# Altium integrated library ON Semi Logic Buffer Line Driver.IntLib: 294 symbols (part 5 of 7)
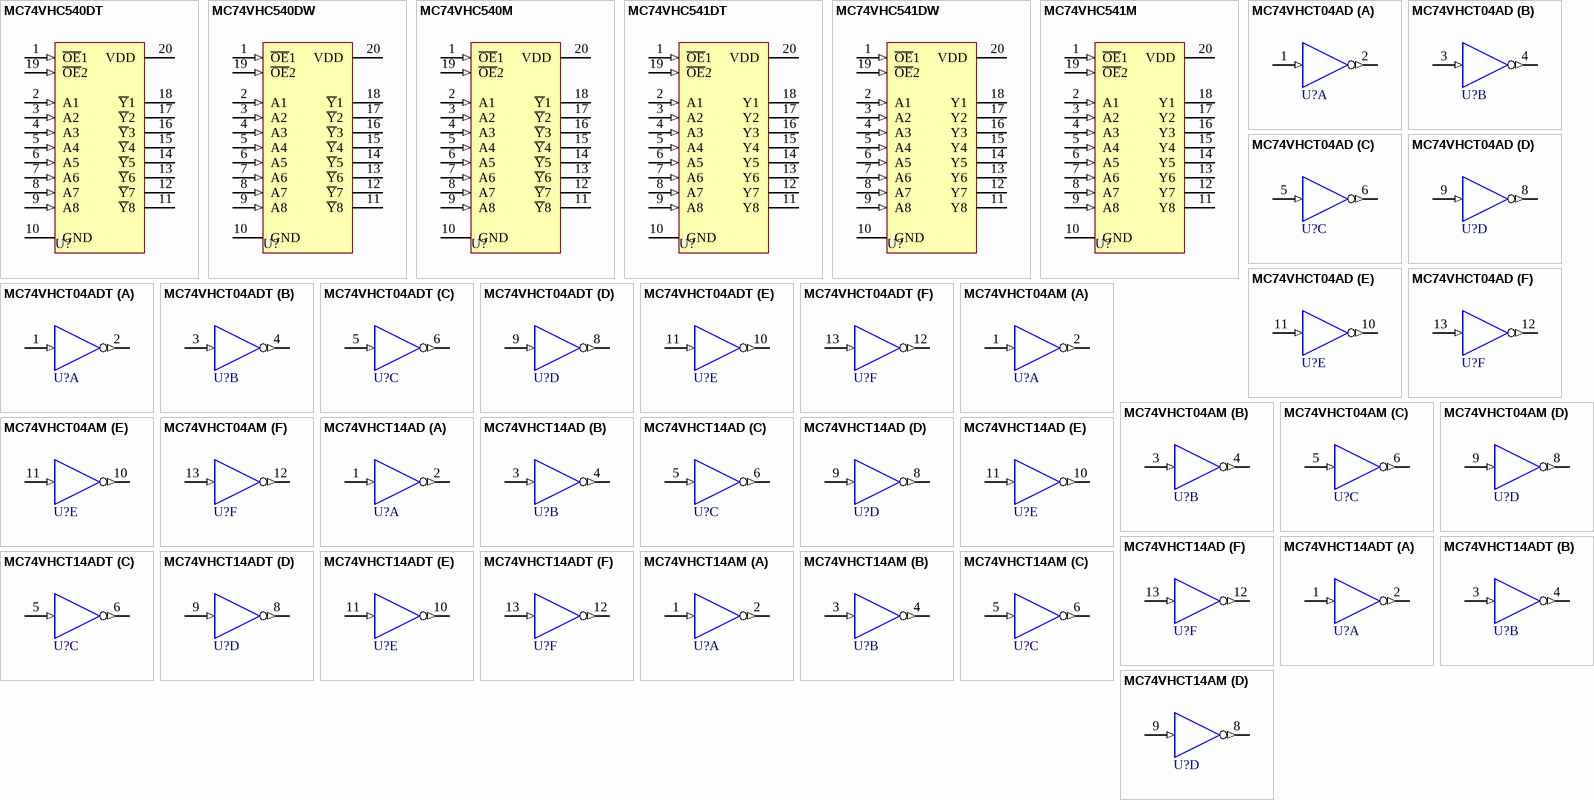
[diagram p26: symbols MC74VHC540DT to MC74VHCT14AM]

## MC74VHC540M
designator U?
Octal Inverting Bus Buffer; Published: 15-Apr-2002; LatestRevisionDate: 13-Apr-2006; LatestRevisionNote: IPC-7351 Footprint Added.; DatasheetVersion: 1997; PackageVersion: 1997; PackageReference: 967-01; Publisher: Altium Limited; PackageDescription: 20-Pin Small Outline Package 1.27 mm Pitch; ComponentLink1Description: Manufacturer Link; ComponentLink1URL: http://www.onsemi.com/; ComponentLink2Description: Datasheet; ComponentLink2URL: http://www.onsemi.com/pub/Collateral/MC74VHC540-D.PDF
footprint 967-01_N (SOP, 20-Leads, Body 12.6x5.3mm, Pitch 1.27mm, IPC Medium Density)
footprint 967-01_L (SOP, 20-Leads, Body 12.6x5.3mm, Pitch 1.27mm, IPC High Density)
footprint 967-01_M (SOP, 20-Leads, Body 12.6x5.3mm, Pitch 1.27mm, IPC Low Density)
pins: 1 ~{OE}1 (in), 2 A1 (in), 3 A2 (in), 4 A3 (in), 5 A4 (in), 6 A5 (in), 7 A6 (in), 8 A7 (in), 9 A8 (in), 10 GND (power), 11 ~{Y}8 (hiz), 12 ~{Y}7 (hiz), 13 ~{Y}6 (hiz), 14 ~{Y}5 (hiz), 15 ~{Y}4 (hiz), 16 ~{Y}3 (hiz), 17 ~{Y}2 (hiz), 18 ~{Y}1 (hiz), 19 ~{OE}2 (in), 20 VDD (power)

## MC74VHC541DT
designator U?
Octal Bus Buffer; Published: 15-Apr-2002; LatestRevisionDate: 12-Dec-2006; LatestRevisionNote: IPC-7351 Footprint Added.; DatasheetVersion: 1998; PackageVersion: Mar-2000; PackageReference: 948E-02; Publisher: Altium Limited; PackageDescription: 20-Pin Thin Small Outline Package 0.65 mm Pitch; ComponentLink1Description: Manufacturer Link; ComponentLink1URL: http://www.onsemi.com/; ComponentLink2Description: Datasheet; ComponentLink2URL: http://www.onsemi.com/pub/Collateral/MC74VHC541-D.PDF
footprint 948E-02_N (TSOP, 20-Leads, Body 6.5x4.4mm, Pitch 0.65mm, IPC Medium Density)
footprint 948E-02_L (TSOP, 20-Leads, Body 6.5x4.4mm, Pitch 0.65mm, IPC High Density)
footprint 948E-02_M (TSOP, 20-Leads, Body 6.5x4.4mm, Pitch 0.65mm, IPC Low Density)
pins: 1 ~{OE}1 (in), 2 A1 (in), 3 A2 (in), 4 A3 (in), 5 A4 (in), 6 A5 (in), 7 A6 (in), 8 A7 (in), 9 A8 (in), 10 GND (power), 11 Y8 (hiz), 12 Y7 (hiz), 13 Y6 (hiz), 14 Y5 (hiz), 15 Y4 (hiz), 16 Y3 (hiz), 17 Y2 (hiz), 18 Y1 (hiz), 19 ~{OE}2 (in), 20 VDD (power)

## MC74VHC541DW
designator U?
Octal Bus Buffer; Published: 15-Apr-2002; LatestRevisionDate: 13-Apr-2006; LatestRevisionNote: IPC-7351 Footprint Added.; DatasheetVersion: 1998; PackageReference: 751D-04; Publisher: Altium Limited; PackageDescription: 20-Pin Small Outline Integrated Circuit 1.27 mm Pitch; ComponentLink1Description: Manufacturer Link; ComponentLink1URL: http://www.onsemi.com/; ComponentLink2Description: Datasheet; ComponentLink2URL: http://www.onsemi.com/pub/Collateral/MC74VHC541-D.PDF
footprint 751D-04_N (SOIC, 20-Leads, Body 12.8x7.5mm, Pitch 1.27mm, IPC Medium Density)
footprint 751D-04_L (SOIC, 20-Leads, Body 12.8x7.5mm, Pitch 1.27mm, IPC High Density)
footprint 751D-04_M (SOIC, 20-Leads, Body 12.8x7.5mm, Pitch 1.27mm, IPC Low Density)
pins: 1 ~{OE}1 (in), 2 A1 (in), 3 A2 (in), 4 A3 (in), 5 A4 (in), 6 A5 (in), 7 A6 (in), 8 A7 (in), 9 A8 (in), 10 GND (power), 11 Y8 (hiz), 12 Y7 (hiz), 13 Y6 (hiz), 14 Y5 (hiz), 15 Y4 (hiz), 16 Y3 (hiz), 17 Y2 (hiz), 18 Y1 (hiz), 19 ~{OE}2 (in), 20 VDD (power)

## MC74VHC541M
designator U?
Octal Bus Buffer; Published: 15-Apr-2002; LatestRevisionDate: 13-Apr-2006; LatestRevisionNote: IPC-7351 Footprint Added.; DatasheetVersion: 1998; PackageVersion: 1997; PackageReference: 967-01; Publisher: Altium Limited; PackageDescription: 20-Pin Small Outline Package 1.27 mm Pitch; ComponentLink1Description: Manufacturer Link; ComponentLink1URL: http://www.onsemi.com/; ComponentLink2Description: Datasheet; ComponentLink2URL: http://www.onsemi.com/pub/Collateral/MC74VHC541-D.PDF
footprint 967-01_N (SOP, 20-Leads, Body 12.6x5.3mm, Pitch 1.27mm, IPC Medium Density)
footprint 967-01_L (SOP, 20-Leads, Body 12.6x5.3mm, Pitch 1.27mm, IPC High Density)
footprint 967-01_M (SOP, 20-Leads, Body 12.6x5.3mm, Pitch 1.27mm, IPC Low Density)
pins: 1 ~{OE}1 (in), 2 A1 (in), 3 A2 (in), 4 A3 (in), 5 A4 (in), 6 A5 (in), 7 A6 (in), 8 A7 (in), 9 A8 (in), 10 GND (power), 11 Y8 (hiz), 12 Y7 (hiz), 13 Y6 (hiz), 14 Y5 (hiz), 15 Y4 (hiz), 16 Y3 (hiz), 17 Y2 (hiz), 18 Y1 (hiz), 19 ~{OE}2 (in), 20 VDD (power)

## MC74VHCT04AD
designator U?
Hex Inverter; Published: 15-Apr-2002; LatestRevisionDate: 13-Apr-2006; LatestRevisionNote: IPC-7351 Footprint Added.; DatasheetVersion: 1997; PackageReference: 751A-03; Publisher: Altium Limited; PackageDescription: 14-Pin Small Outline Integrated Circuit 1.27 mm Pitch; Code_JEDEC: MS-012-AB; Code_IPC: SOIC127P600-14; ComponentLink1Description: Manufacturer Link; ComponentLink1URL: http://www.onsemi.com/; ComponentLink2Description: Datasheet; ComponentLink2URL: http://www.onsemi.com/pub/Collateral/MC74VHCT04A-D.PDF
footprint 751A-03_N (SOIC, 14-Leads, Body 8.7x3.9mm, Pitch 1.27mm, IPC Medium Density)
footprint 751A-03_L (SOIC, 14-Leads, Body 8.7x3.9mm, Pitch 1.27mm, IPC High Density)
footprint 751A-03_M (SOIC, 14-Leads, Body 8.7x3.9mm, Pitch 1.27mm, IPC Low Density)
pins on every part: 7 GND (power) hidden to GND, 14 VDD (power) hidden to VDD
part A pins: 1 IN (in), 2 ~{OUT} (out)
part B pins: 3 IN (in), 4 ~{OUT} (out)
part C pins: 5 IN (in), 6 ~{OUT} (out)
part D pins: 8 ~{OUT} (out), 9 IN (in)
part E pins: 10 ~{OUT} (out), 11 IN (in)
part F pins: 12 ~{OUT} (out), 13 IN (in)

## MC74VHCT04ADT
designator U?
Hex Inverter; Published: 15-Apr-2002; LatestRevisionDate: 12-Dec-2006; LatestRevisionNote: IPC-7351 Footprint Added.; DatasheetVersion: 1997; PackageVersion: 1998; PackageReference: 948G-01; Publisher: Altium Limited; PackageDescription: 14-Pin Thin Small Outline Package 0.65 mm Pitch; ComponentLink1Description: Manufacturer Link; ComponentLink1URL: http://www.onsemi.com/; ComponentLink2Description: Datasheet; ComponentLink2URL: http://www.onsemi.com/pub/Collateral/MC74VHCT04A-D.PDF
footprint 948G-01_N (TSOP, 14-Leads, Body 5x4.4mm, Pitch 0.65mm, IPC Medium Density)
footprint 948G-01_L (TSOP, 14-Leads, Body 5x4.4mm, Pitch 0.65mm, IPC High Density)
footprint 948G-01_M (TSOP, 14-Leads, Body 5x4.4mm, Pitch 0.65mm, IPC Low Density)
pins on every part: 7 GND (power) hidden to GND, 14 VDD (power) hidden to VDD
part A pins: 1 IN (in), 2 ~{OUT} (out)
part B pins: 3 IN (in), 4 ~{OUT} (out)
part C pins: 5 IN (in), 6 ~{OUT} (out)
part D pins: 8 ~{OUT} (out), 9 IN (in)
part E pins: 10 ~{OUT} (out), 11 IN (in)
part F pins: 12 ~{OUT} (out), 13 IN (in)

## MC74VHCT04AM
designator U?
Hex Inverter; Published: 15-Apr-2002; LatestRevisionDate: 13-Apr-2006; LatestRevisionNote: IPC-7351 Footprint Added.; DatasheetVersion: 1997; PackageVersion: 1996; PackageReference: 965-01; Publisher: Altium Limited; PackageDescription: 14-Pin Small Outline Package 1.27 mm Pitch; ComponentLink1Description: Manufacturer Link; ComponentLink1URL: http://www.onsemi.com/; ComponentLink2Description: Datasheet; ComponentLink2URL: http://www.onsemi.com/pub/Collateral/MC74VHCT04A-D.PDF
footprint 965-01_N (SOP, 14-Leads, Body 10.2x5.3mm, Pitch 1.27mm, IPC Medium Density)
footprint 965-01_L (SOP, 14-Leads, Body 10.2x5.3mm, Pitch 1.27mm, IPC High Density)
footprint 965-01_M (SOP, 14-Leads, Body 10.2x5.3mm, Pitch 1.27mm, IPC Low Density)
pins on every part: 7 GND (power) hidden to GND, 14 VDD (power) hidden to VDD
part A pins: 1 IN (in), 2 ~{OUT} (out)
part B pins: 3 IN (in), 4 ~{OUT} (out)
part C pins: 5 IN (in), 6 ~{OUT} (out)
part D pins: 8 ~{OUT} (out), 9 IN (in)
part E pins: 10 ~{OUT} (out), 11 IN (in)
part F pins: 12 ~{OUT} (out), 13 IN (in)

## MC74VHCT14AD
designator U?
Hex Schmitt-Trigger Inverter; Published: 15-Apr-2002; LatestRevisionDate: 13-Apr-2006; LatestRevisionNote: IPC-7351 Footprint Added.; DatasheetVersion: 1999; PackageReference: 751A-03; Publisher: Altium Limited; PackageDescription: 14-Pin Small Outline Integrated Circuit 1.27 mm Pitch; Code_JEDEC: MS-012-AB; Code_IPC: SOIC127P600-14; ComponentLink1Description: Manufacturer Link; ComponentLink1URL: http://www.onsemi.com/; ComponentLink2Description: Datasheet; ComponentLink2URL: http://www.onsemi.com/pub/Collateral/MC74VHCT14A-D.PDF
footprint 751A-03_N (SOIC, 14-Leads, Body 8.7x3.9mm, Pitch 1.27mm, IPC Medium Density)
footprint 751A-03_L (SOIC, 14-Leads, Body 8.7x3.9mm, Pitch 1.27mm, IPC High Density)
footprint 751A-03_M (SOIC, 14-Leads, Body 8.7x3.9mm, Pitch 1.27mm, IPC Low Density)
pins on every part: 7 GND (power) hidden to GND, 14 VDD (power) hidden to VDD
part A pins: 1 IN (in), 2 ~{OUT} (out)
part B pins: 3 IN (in), 4 ~{OUT} (out)
part C pins: 5 IN (in), 6 ~{OUT} (out)
part D pins: 8 ~{OUT} (out), 9 IN (in)
part E pins: 10 ~{OUT} (out), 11 IN (in)
part F pins: 12 ~{OUT} (out), 13 IN (in)

## MC74VHCT14ADT
designator U?
Hex Schmitt-Trigger Inverter; Published: 15-Apr-2002; LatestRevisionDate: 12-Dec-2006; LatestRevisionNote: IPC-7351 Footprint Added.; DatasheetVersion: 1999; PackageVersion: 1998; PackageReference: 948G-01; Publisher: Altium Limited; PackageDescription: 14-Pin Thin Small Outline Package 0.65 mm Pitch; ComponentLink1Description: Manufacturer Link; ComponentLink1URL: http://www.onsemi.com/; ComponentLink2Description: Datasheet; ComponentLink2URL: http://www.onsemi.com/pub/Collateral/MC74VHCT14A-D.PDF
footprint 948G-01_N (TSOP, 14-Leads, Body 5x4.4mm, Pitch 0.65mm, IPC Medium Density)
footprint 948G-01_L (TSOP, 14-Leads, Body 5x4.4mm, Pitch 0.65mm, IPC High Density)
footprint 948G-01_M (TSOP, 14-Leads, Body 5x4.4mm, Pitch 0.65mm, IPC Low Density)
pins on every part: 7 GND (power) hidden to GND, 14 VDD (power) hidden to VDD
part A pins: 1 IN (in), 2 ~{OUT} (out)
part B pins: 3 IN (in), 4 ~{OUT} (out)
part C pins: 5 IN (in), 6 ~{OUT} (out)
part D pins: 8 ~{OUT} (out), 9 IN (in)
part E pins: 10 ~{OUT} (out), 11 IN (in)
part F pins: 12 ~{OUT} (out), 13 IN (in)

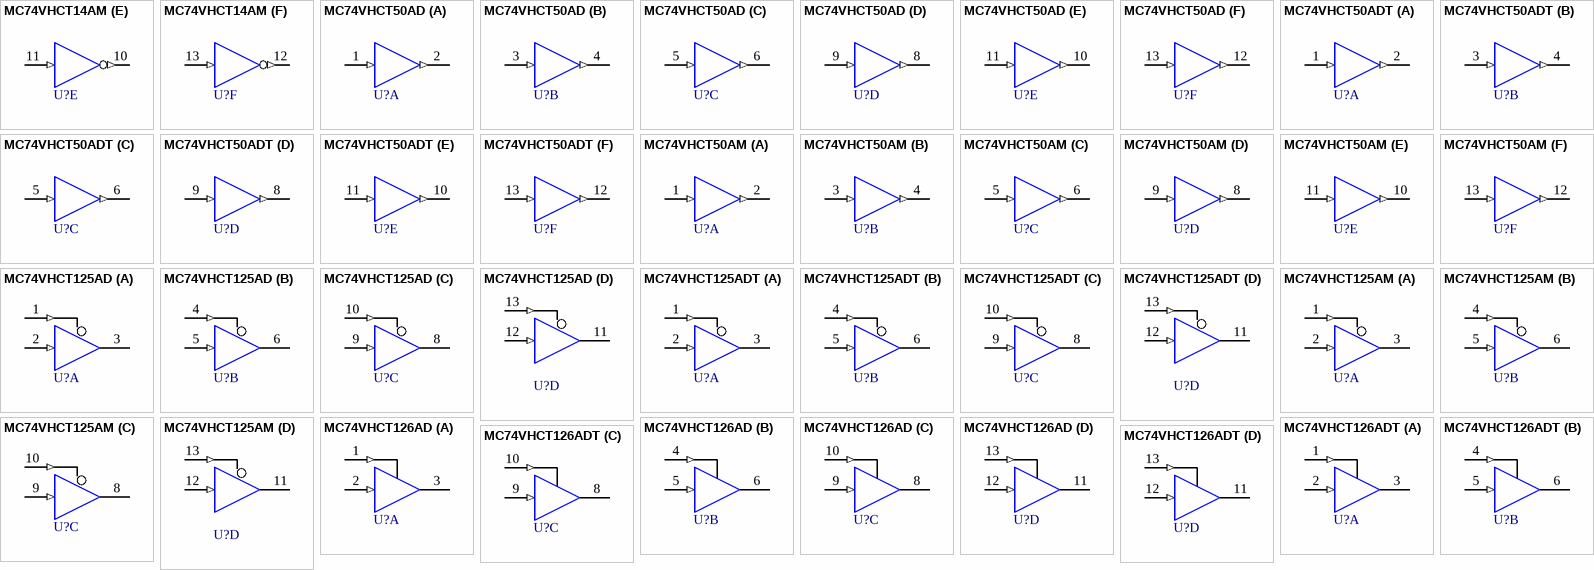
[diagram p15: symbols MC74VHCT14AM to MC74VHCT126ADT]

## MC74VHCT14AM
designator U?
Hex Schmitt-Trigger Inverter; Published: 15-Apr-2002; LatestRevisionDate: 13-Apr-2006; LatestRevisionNote: IPC-7351 Footprint Added.; DatasheetVersion: 1999; PackageVersion: 1996; PackageReference: 965-01; Publisher: Altium Limited; PackageDescription: 14-Pin Small Outline Package 1.27 mm Pitch; ComponentLink1Description: Manufacturer Link; ComponentLink1URL: http://www.onsemi.com/; ComponentLink2Description: Datasheet; ComponentLink2URL: http://www.onsemi.com/pub/Collateral/MC74VHCT14A-D.PDF
footprint 965-01_N (SOP, 14-Leads, Body 10.2x5.3mm, Pitch 1.27mm, IPC Medium Density)
footprint 965-01_L (SOP, 14-Leads, Body 10.2x5.3mm, Pitch 1.27mm, IPC High Density)
footprint 965-01_M (SOP, 14-Leads, Body 10.2x5.3mm, Pitch 1.27mm, IPC Low Density)
pins on every part: 7 GND (power) hidden to GND, 14 VDD (power) hidden to VDD
part A pins: 1 IN (in), 2 ~{OUT} (out)
part B pins: 3 IN (in), 4 ~{OUT} (out)
part C pins: 5 IN (in), 6 ~{OUT} (out)
part D pins: 8 ~{OUT} (out), 9 IN (in)
part E pins: 10 ~{OUT} (out), 11 IN (in)
part F pins: 12 ~{OUT} (out), 13 IN (in)

## MC74VHCT50AD
designator U?
Non-Inverting Buffer / CMOS Logic Level Shifter with LSTTL-Compatible Inputs; Published: 15-Apr-2002; LatestRevisionDate: 13-Apr-2006; LatestRevisionNote: IPC-7351 Footprint Added.; DatasheetVersion: Oct-1999; PackageReference: 751A-03; Publisher: Altium Limited; PackageDescription: 14-Pin Small Outline Integrated Circuit 1.27 mm Pitch; Code_JEDEC: MS-012-AB; Code_IPC: SOIC127P600-14; ComponentLink1Description: Manufacturer Link; ComponentLink1URL: http://www.onsemi.com/; ComponentLink2Description: Datasheet; ComponentLink2URL: http://www.onsemi.com/pub/Collateral/MC74VHCT50A-D.PDF
footprint 751A-03_N (SOIC, 14-Leads, Body 8.7x3.9mm, Pitch 1.27mm, IPC Medium Density)
footprint 751A-03_L (SOIC, 14-Leads, Body 8.7x3.9mm, Pitch 1.27mm, IPC High Density)
footprint 751A-03_M (SOIC, 14-Leads, Body 8.7x3.9mm, Pitch 1.27mm, IPC Low Density)
pins on every part: 7 GND (power) hidden to GND, 14 VDD (power) hidden to VDD
part A pins: 1 A (in), 2 Y (out)
part B pins: 3 A (in), 4 Y (out)
part C pins: 5 A (in), 6 Y (out)
part D pins: 8 Y (out), 9 A (in)
part E pins: 10 Y (out), 11 A (in)
part F pins: 12 Y (out), 13 A (in)

## MC74VHCT50ADT
designator U?
Non-Inverting Buffer / CMOS Logic Level Shifter with LSTTL-Compatible Inputs; Published: 15-Apr-2002; LatestRevisionDate: 12-Dec-2006; LatestRevisionNote: IPC-7351 Footprint Added.; DatasheetVersion: Oct-1999; PackageVersion: 1998; PackageReference: 948G-01; Publisher: Altium Limited; PackageDescription: 14-Pin Thin Small Outline Package 0.65 mm Pitch; ComponentLink1Description: Manufacturer Link; ComponentLink1URL: http://www.onsemi.com/; ComponentLink2Description: Datasheet; ComponentLink2URL: http://www.onsemi.com/pub/Collateral/MC74VHCT50A-D.PDF
footprint 948G-01_N (TSOP, 14-Leads, Body 5x4.4mm, Pitch 0.65mm, IPC Medium Density)
footprint 948G-01_L (TSOP, 14-Leads, Body 5x4.4mm, Pitch 0.65mm, IPC High Density)
footprint 948G-01_M (TSOP, 14-Leads, Body 5x4.4mm, Pitch 0.65mm, IPC Low Density)
pins on every part: 7 GND (power) hidden to GND, 14 VDD (power) hidden to VDD
part A pins: 1 A (in), 2 Y (out)
part B pins: 3 A (in), 4 Y (out)
part C pins: 5 A (in), 6 Y (out)
part D pins: 8 Y (out), 9 A (in)
part E pins: 10 Y (out), 11 A (in)
part F pins: 12 Y (out), 13 A (in)

## MC74VHCT50AM
designator U?
Non-Inverting Buffer / CMOS Logic Level Shifter with LSTTL-Compatible Inputs; Published: 15-Apr-2002; LatestRevisionDate: 13-Apr-2006; LatestRevisionNote: IPC-7351 Footprint Added.; DatasheetVersion: Oct-1999; PackageVersion: 1996; PackageReference: 965-01; Publisher: Altium Limited; PackageDescription: 14-Pin Small Outline Package 1.27 mm Pitch; ComponentLink1Description: Manufacturer Link; ComponentLink1URL: http://www.onsemi.com/; ComponentLink2Description: Datasheet; ComponentLink2URL: http://www.onsemi.com/pub/Collateral/MC74VHCT50A-D.PDF
footprint 965-01_N (SOP, 14-Leads, Body 10.2x5.3mm, Pitch 1.27mm, IPC Medium Density)
footprint 965-01_L (SOP, 14-Leads, Body 10.2x5.3mm, Pitch 1.27mm, IPC High Density)
footprint 965-01_M (SOP, 14-Leads, Body 10.2x5.3mm, Pitch 1.27mm, IPC Low Density)
pins on every part: 7 GND (power) hidden to GND, 14 VDD (power) hidden to VDD
part A pins: 1 A (in), 2 Y (out)
part B pins: 3 A (in), 4 Y (out)
part C pins: 5 A (in), 6 Y (out)
part D pins: 8 Y (out), 9 A (in)
part E pins: 10 Y (out), 11 A (in)
part F pins: 12 Y (out), 13 A (in)

## MC74VHCT125AD
designator U?
Quad Bus Buffer with 3-State Control Inputs; Published: 15-Apr-2002; LatestRevisionDate: 13-Apr-2006; LatestRevisionNote: IPC-7351 Footprint Added.; DatasheetVersion: 1999; PackageReference: 751A-03; Publisher: Altium Limited; PackageDescription: 14-Pin Small Outline Integrated Circuit 1.27 mm Pitch; Code_JEDEC: MS-012-AB; Code_IPC: SOIC127P600-14; ComponentLink1Description: Manufacturer Link; ComponentLink1URL: http://www.onsemi.com/; ComponentLink2Description: Datasheet; ComponentLink2URL: http://www.onsemi.com/pub/Collateral/MC74VHCT125A-D.PDF
footprint 751A-03_N (SOIC, 14-Leads, Body 8.7x3.9mm, Pitch 1.27mm, IPC Medium Density)
footprint 751A-03_L (SOIC, 14-Leads, Body 8.7x3.9mm, Pitch 1.27mm, IPC High Density)
footprint 751A-03_M (SOIC, 14-Leads, Body 8.7x3.9mm, Pitch 1.27mm, IPC Low Density)
pins on every part: 7 GND (power) hidden to GND, 14 VDD (power) hidden to VDD
part A pins: 1 ~{A} (in), 2 B (in), 3 Y (hiz)
part B pins: 4 ~{A} (in), 5 B (in), 6 Y (hiz)
part C pins: 8 Y (hiz), 9 B (in), 10 ~{A} (in)
part D pins: 11 Y (hiz), 12 B (in), 13 ~{A} (in)

## MC74VHCT125ADT
designator U?
Quad Bus Buffer with 3-State Control Inputs; Published: 15-Apr-2002; LatestRevisionDate: 12-Dec-2006; LatestRevisionNote: IPC-7351 Footprint Added.; DatasheetVersion: 1999; PackageVersion: 1998; PackageReference: 948G-01; Publisher: Altium Limited; PackageDescription: 14-Pin Thin Small Outline Package 0.65 mm Pitch; ComponentLink1Description: Manufacturer Link; ComponentLink1URL: http://www.onsemi.com/; ComponentLink2Description: Datasheet; ComponentLink2URL: http://www.onsemi.com/pub/Collateral/MC74VHCT125A-D.PDF
footprint 948G-01_N (TSOP, 14-Leads, Body 5x4.4mm, Pitch 0.65mm, IPC Medium Density)
footprint 948G-01_L (TSOP, 14-Leads, Body 5x4.4mm, Pitch 0.65mm, IPC High Density)
footprint 948G-01_M (TSOP, 14-Leads, Body 5x4.4mm, Pitch 0.65mm, IPC Low Density)
pins on every part: 7 GND (power) hidden to GND, 14 VDD (power) hidden to VDD
part A pins: 1 ~{A} (in), 2 B (in), 3 Y (hiz)
part B pins: 4 ~{A} (in), 5 B (in), 6 Y (hiz)
part C pins: 8 Y (hiz), 9 B (in), 10 ~{A} (in)
part D pins: 11 Y (hiz), 12 B (in), 13 ~{A} (in)

## MC74VHCT125AM
designator U?
Quad Bus Buffer with 3-State Control Inputs; Published: 15-Apr-2002; LatestRevisionDate: 13-Apr-2006; LatestRevisionNote: IPC-7351 Footprint Added.; DatasheetVersion: 1999; PackageVersion: 1996; PackageReference: 965-01; Publisher: Altium Limited; PackageDescription: 14-Pin Small Outline Package 1.27 mm Pitch; ComponentLink1Description: Manufacturer Link; ComponentLink1URL: http://www.onsemi.com/; ComponentLink2Description: Datasheet; ComponentLink2URL: http://www.onsemi.com/pub/Collateral/MC74VHCT125A-D.PDF
footprint 965-01_N (SOP, 14-Leads, Body 10.2x5.3mm, Pitch 1.27mm, IPC Medium Density)
footprint 965-01_L (SOP, 14-Leads, Body 10.2x5.3mm, Pitch 1.27mm, IPC High Density)
footprint 965-01_M (SOP, 14-Leads, Body 10.2x5.3mm, Pitch 1.27mm, IPC Low Density)
pins on every part: 7 GND (power) hidden to GND, 14 VDD (power) hidden to VDD
part A pins: 1 ~{A} (in), 2 B (in), 3 Y (hiz)
part B pins: 4 ~{A} (in), 5 B (in), 6 Y (hiz)
part C pins: 8 Y (hiz), 9 B (in), 10 ~{A} (in)
part D pins: 11 Y (hiz), 12 B (in), 13 ~{A} (in)

## MC74VHCT126AD
designator U?
Quad Bus Buffer with 3-State Control Inputs; Published: 15-Apr-2002; LatestRevisionDate: 13-Apr-2006; LatestRevisionNote: IPC-7351 Footprint Added.; DatasheetVersion: 1999; PackageReference: 751A-03; Publisher: Altium Limited; PackageDescription: 14-Pin Small Outline Integrated Circuit 1.27 mm Pitch; Code_JEDEC: MS-012-AB; Code_IPC: SOIC127P600-14; ComponentLink1Description: Manufacturer Link; ComponentLink1URL: http://www.onsemi.com/; ComponentLink2Description: Datasheet; ComponentLink2URL: http://www.onsemi.com/pub/Collateral/MC74VHCT126A-D.PDF
footprint 751A-03_N (SOIC, 14-Leads, Body 8.7x3.9mm, Pitch 1.27mm, IPC Medium Density)
footprint 751A-03_L (SOIC, 14-Leads, Body 8.7x3.9mm, Pitch 1.27mm, IPC High Density)
footprint 751A-03_M (SOIC, 14-Leads, Body 8.7x3.9mm, Pitch 1.27mm, IPC Low Density)
pins on every part: 7 GND (power) hidden to GND, 14 VDD (power) hidden to VDD
part A pins: 1 OE (in), 2 A (in), 3 Y (hiz)
part B pins: 4 OE (in), 5 A (in), 6 Y (hiz)
part C pins: 8 Y (hiz), 9 A (in), 10 OE (in)
part D pins: 11 Y (hiz), 12 A (in), 13 OE (in)

## MC74VHCT126ADT
designator U?
Quad Bus Buffer with 3-State Control Inputs; Published: 15-Apr-2002; LatestRevisionDate: 12-Dec-2006; LatestRevisionNote: IPC-7351 Footprint Added.; DatasheetVersion: 1999; PackageVersion: 1998; PackageReference: 948G-01; Publisher: Altium Limited; PackageDescription: 14-Pin Thin Small Outline Package 0.65 mm Pitch; ComponentLink1Description: Manufacturer Link; ComponentLink1URL: http://www.onsemi.com/; ComponentLink2Description: Datasheet; ComponentLink2URL: http://www.onsemi.com/pub/Collateral/MC74VHCT126A-D.PDF
footprint 948G-01_N (TSOP, 14-Leads, Body 5x4.4mm, Pitch 0.65mm, IPC Medium Density)
footprint 948G-01_L (TSOP, 14-Leads, Body 5x4.4mm, Pitch 0.65mm, IPC High Density)
footprint 948G-01_M (TSOP, 14-Leads, Body 5x4.4mm, Pitch 0.65mm, IPC Low Density)
pins on every part: 7 GND (power) hidden to GND, 14 VDD (power) hidden to VDD
part A pins: 1 OE (in), 2 A (in), 3 Y (hiz)
part B pins: 4 OE (in), 5 A (in), 6 Y (hiz)
part C pins: 8 Y (hiz), 9 A (in), 10 OE (in)
part D pins: 11 Y (hiz), 12 A (in), 13 OE (in)

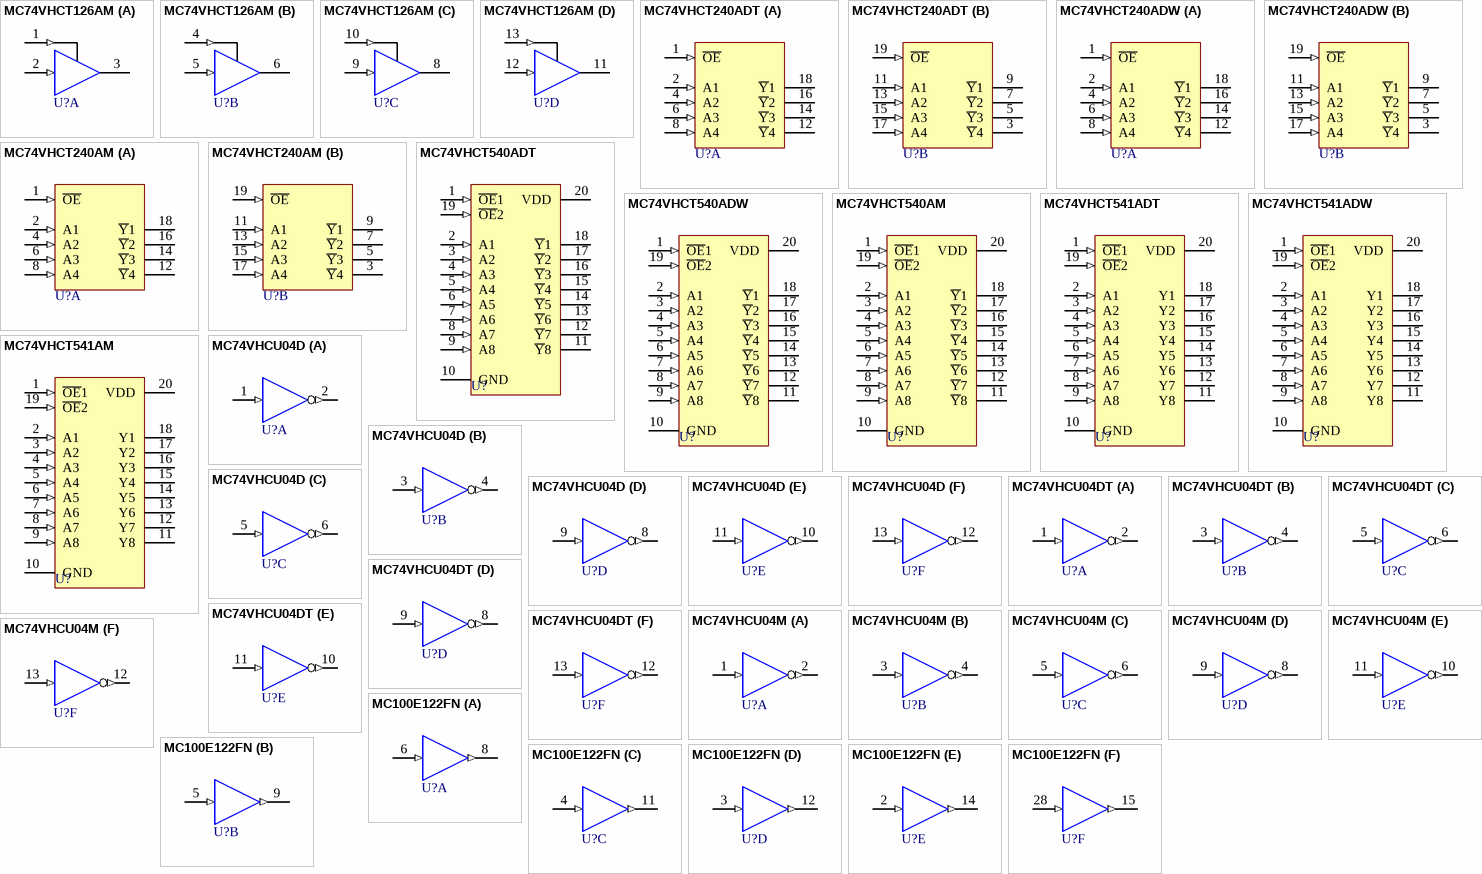
[diagram p16: symbols MC74VHCT126AM to MC100E122FN]

## MC74VHCT126AM
designator U?
Quad Bus Buffer with 3-State Control Inputs; Published: 15-Apr-2002; LatestRevisionDate: 13-Apr-2006; LatestRevisionNote: IPC-7351 Footprint Added.; DatasheetVersion: 1999; PackageVersion: 1996; PackageReference: 965-01; Publisher: Altium Limited; PackageDescription: 14-Pin Small Outline Package 1.27 mm Pitch; ComponentLink1Description: Manufacturer Link; ComponentLink1URL: http://www.onsemi.com/; ComponentLink2Description: Datasheet; ComponentLink2URL: http://www.onsemi.com/pub/Collateral/MC74VHCT126A-D.PDF
footprint 965-01_N (SOP, 14-Leads, Body 10.2x5.3mm, Pitch 1.27mm, IPC Medium Density)
footprint 965-01_L (SOP, 14-Leads, Body 10.2x5.3mm, Pitch 1.27mm, IPC High Density)
footprint 965-01_M (SOP, 14-Leads, Body 10.2x5.3mm, Pitch 1.27mm, IPC Low Density)
pins on every part: 7 GND (power) hidden to GND, 14 VDD (power) hidden to VDD
part A pins: 1 OE (in), 2 A (in), 3 Y (hiz)
part B pins: 4 OE (in), 5 A (in), 6 Y (hiz)
part C pins: 8 Y (hiz), 9 A (in), 10 OE (in)
part D pins: 11 Y (hiz), 12 A (in), 13 OE (in)

## MC74VHCT240ADT
designator U?
Octal Inverting Bus Buffer/Line Driver with 3-State Outputs; Published: 15-Apr-2002; LatestRevisionDate: 12-Dec-2006; LatestRevisionNote: IPC-7351 Footprint Added.; DatasheetVersion: 1997; PackageVersion: Mar-2000; PackageReference: 948E-02; Publisher: Altium Limited; PackageDescription: 20-Pin Thin Small Outline Package 0.65 mm Pitch; ComponentLink1Description: Manufacturer Link; ComponentLink1URL: http://www.onsemi.com/; ComponentLink2Description: Datasheet; ComponentLink2URL: http://www.onsemi.com/pub/Collateral/MC74VHCT14A-D.PDF
footprint 948E-02_N (TSOP, 20-Leads, Body 6.5x4.4mm, Pitch 0.65mm, IPC Medium Density)
footprint 948E-02_L (TSOP, 20-Leads, Body 6.5x4.4mm, Pitch 0.65mm, IPC High Density)
footprint 948E-02_M (TSOP, 20-Leads, Body 6.5x4.4mm, Pitch 0.65mm, IPC Low Density)
pins on every part: 10 GND (power) hidden to GND, 20 VDD (power) hidden to VDD
part A pins: 1 ~{OE} (in), 2 A1 (in), 4 A2 (in), 6 A3 (in), 8 A4 (in), 12 ~{Y}4 (hiz), 14 ~{Y}3 (hiz), 16 ~{Y}2 (hiz), 18 ~{Y}1 (hiz)
part B pins: 3 ~{Y}4 (hiz), 5 ~{Y}3 (hiz), 7 ~{Y}2 (hiz), 9 ~{Y}1 (hiz), 11 A1 (in), 13 A2 (in), 15 A3 (in), 17 A4 (in), 19 ~{OE} (in)

## MC74VHCT240ADW
designator U?
Octal Inverting Bus Buffer/Line Driver with 3-State Outputs; Published: 15-Apr-2002; LatestRevisionDate: 13-Apr-2006; LatestRevisionNote: IPC-7351 Footprint Added.; DatasheetVersion: 1997; PackageReference: 751D-04; Publisher: Altium Limited; PackageDescription: 20-Pin Small Outline Integrated Circuit 1.27 mm Pitch; ComponentLink1Description: Manufacturer Link; ComponentLink1URL: http://www.onsemi.com/; ComponentLink2Description: Datasheet; ComponentLink2URL: http://www.onsemi.com/pub/Collateral/MC74VHCT14A-D.PDF
footprint 751D-04_N (SOIC, 20-Leads, Body 12.8x7.5mm, Pitch 1.27mm, IPC Medium Density)
footprint 751D-04_L (SOIC, 20-Leads, Body 12.8x7.5mm, Pitch 1.27mm, IPC High Density)
footprint 751D-04_M (SOIC, 20-Leads, Body 12.8x7.5mm, Pitch 1.27mm, IPC Low Density)
pins on every part: 10 GND (power) hidden to GND, 20 VDD (power) hidden to VDD
part A pins: 1 ~{OE} (in), 2 A1 (in), 4 A2 (in), 6 A3 (in), 8 A4 (in), 12 ~{Y}4 (hiz), 14 ~{Y}3 (hiz), 16 ~{Y}2 (hiz), 18 ~{Y}1 (hiz)
part B pins: 3 ~{Y}4 (hiz), 5 ~{Y}3 (hiz), 7 ~{Y}2 (hiz), 9 ~{Y}1 (hiz), 11 A1 (in), 13 A2 (in), 15 A3 (in), 17 A4 (in), 19 ~{OE} (in)

## MC74VHCT240AM
designator U?
Octal Inverting Bus Buffer/Line Driver with 3-State Outputs; Published: 15-Apr-2002; LatestRevisionDate: 13-Apr-2006; LatestRevisionNote: IPC-7351 Footprint Added.; DatasheetVersion: 1997; PackageVersion: 1997; PackageReference: 967-01; Publisher: Altium Limited; PackageDescription: 20-Pin Small Outline Package 1.27 mm Pitch; ComponentLink1Description: Manufacturer Link; ComponentLink1URL: http://www.onsemi.com/; ComponentLink2Description: Datasheet; ComponentLink2URL: http://www.onsemi.com/pub/Collateral/MC74VHCT14A-D.PDF
footprint 967-01_N (SOP, 20-Leads, Body 12.6x5.3mm, Pitch 1.27mm, IPC Medium Density)
footprint 967-01_L (SOP, 20-Leads, Body 12.6x5.3mm, Pitch 1.27mm, IPC High Density)
footprint 967-01_M (SOP, 20-Leads, Body 12.6x5.3mm, Pitch 1.27mm, IPC Low Density)
pins on every part: 10 GND (power) hidden to GND, 20 VDD (power) hidden to VDD
part A pins: 1 ~{OE} (in), 2 A1 (in), 4 A2 (in), 6 A3 (in), 8 A4 (in), 12 ~{Y}4 (hiz), 14 ~{Y}3 (hiz), 16 ~{Y}2 (hiz), 18 ~{Y}1 (hiz)
part B pins: 3 ~{Y}4 (hiz), 5 ~{Y}3 (hiz), 7 ~{Y}2 (hiz), 9 ~{Y}1 (hiz), 11 A1 (in), 13 A2 (in), 15 A3 (in), 17 A4 (in), 19 ~{OE} (in)

## MC74VHCT540ADT
designator U?
Octal Inverting Bus Buffer; Published: 15-Apr-2002; LatestRevisionDate: 12-Dec-2006; LatestRevisionNote: IPC-7351 Footprint Added.; DatasheetVersion: 1999; PackageVersion: Mar-2000; PackageReference: 948E-02; Publisher: Altium Limited; PackageDescription: 20-Pin Thin Small Outline Package 0.65 mm Pitch; ComponentLink1Description: Manufacturer Link; ComponentLink1URL: http://www.onsemi.com/; ComponentLink2Description: Datasheet; ComponentLink2URL: http://www.onsemi.com/pub/Collateral/MC74VHCT540A-D.PDF
footprint 948E-02_N (TSOP, 20-Leads, Body 6.5x4.4mm, Pitch 0.65mm, IPC Medium Density)
footprint 948E-02_L (TSOP, 20-Leads, Body 6.5x4.4mm, Pitch 0.65mm, IPC High Density)
footprint 948E-02_M (TSOP, 20-Leads, Body 6.5x4.4mm, Pitch 0.65mm, IPC Low Density)
pins: 1 ~{OE}1 (in), 2 A1 (in), 3 A2 (in), 4 A3 (in), 5 A4 (in), 6 A5 (in), 7 A6 (in), 8 A7 (in), 9 A8 (in), 10 GND (power), 11 ~{Y}8 (hiz), 12 ~{Y}7 (hiz), 13 ~{Y}6 (hiz), 14 ~{Y}5 (hiz), 15 ~{Y}4 (hiz), 16 ~{Y}3 (hiz), 17 ~{Y}2 (hiz), 18 ~{Y}1 (hiz), 19 ~{OE}2 (in), 20 VDD (power)

## MC74VHCT540ADW
designator U?
Octal Inverting Bus Buffer; Published: 15-Apr-2002; LatestRevisionDate: 13-Apr-2006; LatestRevisionNote: IPC-7351 Footprint Added.; DatasheetVersion: 1999; PackageReference: 751D-05; Publisher: Altium Limited; PackageDescription: 20-Pin Small Outline Integrated Circuit 1.27 mm Pitch; ComponentLink1Description: Manufacturer Link; ComponentLink1URL: http://www.onsemi.com/; ComponentLink2Description: Datasheet; ComponentLink2URL: http://www.onsemi.com/pub/Collateral/MC74VHCT540A-D.PDF
footprint 751D-05_N (SOIC, 20-Leads, Body 12.8x7.5mm, Pitch 1.27mm, IPC Medium Density)
footprint 751D-05_L (SOIC, 20-Leads, Body 12.8x7.5mm, Pitch 1.27mm, IPC High Density)
footprint 751D-05_M (SOIC, 20-Leads, Body 12.8x7.5mm, Pitch 1.27mm, IPC Low Density)
pins: 1 ~{OE}1 (in), 2 A1 (in), 3 A2 (in), 4 A3 (in), 5 A4 (in), 6 A5 (in), 7 A6 (in), 8 A7 (in), 9 A8 (in), 10 GND (power), 11 ~{Y}8 (hiz), 12 ~{Y}7 (hiz), 13 ~{Y}6 (hiz), 14 ~{Y}5 (hiz), 15 ~{Y}4 (hiz), 16 ~{Y}3 (hiz), 17 ~{Y}2 (hiz), 18 ~{Y}1 (hiz), 19 ~{OE}2 (in), 20 VDD (power)

## MC74VHCT540AM
designator U?
Octal Inverting Bus Buffer; Published: 15-Apr-2002; LatestRevisionDate: 13-Apr-2006; LatestRevisionNote: IPC-7351 Footprint Added.; DatasheetVersion: 1999; PackageVersion: 1997; PackageReference: 967-01; Publisher: Altium Limited; PackageDescription: 20-Pin Small Outline Package 1.27 mm Pitch; ComponentLink1Description: Manufacturer Link; ComponentLink1URL: http://www.onsemi.com/; ComponentLink2Description: Datasheet; ComponentLink2URL: http://www.onsemi.com/pub/Collateral/MC74VHCT540A-D.PDF
footprint 967-01_N (SOP, 20-Leads, Body 12.6x5.3mm, Pitch 1.27mm, IPC Medium Density)
footprint 967-01_L (SOP, 20-Leads, Body 12.6x5.3mm, Pitch 1.27mm, IPC High Density)
footprint 967-01_M (SOP, 20-Leads, Body 12.6x5.3mm, Pitch 1.27mm, IPC Low Density)
pins: 1 ~{OE}1 (in), 2 A1 (in), 3 A2 (in), 4 A3 (in), 5 A4 (in), 6 A5 (in), 7 A6 (in), 8 A7 (in), 9 A8 (in), 10 GND (power), 11 ~{Y}8 (hiz), 12 ~{Y}7 (hiz), 13 ~{Y}6 (hiz), 14 ~{Y}5 (hiz), 15 ~{Y}4 (hiz), 16 ~{Y}3 (hiz), 17 ~{Y}2 (hiz), 18 ~{Y}1 (hiz), 19 ~{OE}2 (in), 20 VDD (power)

## MC74VHCT541ADT
designator U?
Octal Bus Buffer; Published: 15-Apr-2002; LatestRevisionDate: 12-Dec-2006; LatestRevisionNote: IPC-7351 Footprint Added.; DatasheetVersion: 1997; PackageVersion: Mar-2000; PackageReference: 948E-02; Publisher: Altium Limited; PackageDescription: 20-Pin Thin Small Outline Package 0.65 mm Pitch; ComponentLink1Description: Manufacturer Link; ComponentLink1URL: http://www.onsemi.com/; ComponentLink2Description: Datasheet; ComponentLink2URL: http://www.onsemi.com/pub/Collateral/MC74VHCT541A-D.PDF
footprint 948E-02_N (TSOP, 20-Leads, Body 6.5x4.4mm, Pitch 0.65mm, IPC Medium Density)
footprint 948E-02_L (TSOP, 20-Leads, Body 6.5x4.4mm, Pitch 0.65mm, IPC High Density)
footprint 948E-02_M (TSOP, 20-Leads, Body 6.5x4.4mm, Pitch 0.65mm, IPC Low Density)
pins: 1 ~{OE}1 (in), 2 A1 (in), 3 A2 (in), 4 A3 (in), 5 A4 (in), 6 A5 (in), 7 A6 (in), 8 A7 (in), 9 A8 (in), 10 GND (power), 11 Y8 (hiz), 12 Y7 (hiz), 13 Y6 (hiz), 14 Y5 (hiz), 15 Y4 (hiz), 16 Y3 (hiz), 17 Y2 (hiz), 18 Y1 (hiz), 19 ~{OE}2 (in), 20 VDD (power)

## MC74VHCT541ADW
designator U?
Octal Bus Buffer; Published: 15-Apr-2002; LatestRevisionDate: 13-Apr-2006; LatestRevisionNote: IPC-7351 Footprint Added.; DatasheetVersion: 1997; PackageReference: 751D-04; Publisher: Altium Limited; PackageDescription: 20-Pin Small Outline Integrated Circuit 1.27 mm Pitch; ComponentLink1Description: Manufacturer Link; ComponentLink1URL: http://www.onsemi.com/; ComponentLink2Description: Datasheet; ComponentLink2URL: http://www.onsemi.com/pub/Collateral/MC74VHCT541A-D.PDF
footprint 751D-04_N (SOIC, 20-Leads, Body 12.8x7.5mm, Pitch 1.27mm, IPC Medium Density)
footprint 751D-04_L (SOIC, 20-Leads, Body 12.8x7.5mm, Pitch 1.27mm, IPC High Density)
footprint 751D-04_M (SOIC, 20-Leads, Body 12.8x7.5mm, Pitch 1.27mm, IPC Low Density)
pins: 1 ~{OE}1 (in), 2 A1 (in), 3 A2 (in), 4 A3 (in), 5 A4 (in), 6 A5 (in), 7 A6 (in), 8 A7 (in), 9 A8 (in), 10 GND (power), 11 Y8 (hiz), 12 Y7 (hiz), 13 Y6 (hiz), 14 Y5 (hiz), 15 Y4 (hiz), 16 Y3 (hiz), 17 Y2 (hiz), 18 Y1 (hiz), 19 ~{OE}2 (in), 20 VDD (power)

## MC74VHCT541AM
designator U?
Octal Bus Buffer; Published: 15-Apr-2002; LatestRevisionDate: 13-Apr-2006; LatestRevisionNote: IPC-7351 Footprint Added.; DatasheetVersion: 1997; PackageVersion: 1997; PackageReference: 967-01; Publisher: Altium Limited; PackageDescription: 20-Pin Small Outline Package 1.27 mm Pitch; ComponentLink1Description: Manufacturer Link; ComponentLink1URL: http://www.onsemi.com/; ComponentLink2Description: Datasheet; ComponentLink2URL: http://www.onsemi.com/pub/Collateral/MC74VHCT541A-D.PDF
footprint 967-01_N (SOP, 20-Leads, Body 12.6x5.3mm, Pitch 1.27mm, IPC Medium Density)
footprint 967-01_L (SOP, 20-Leads, Body 12.6x5.3mm, Pitch 1.27mm, IPC High Density)
footprint 967-01_M (SOP, 20-Leads, Body 12.6x5.3mm, Pitch 1.27mm, IPC Low Density)
pins: 1 ~{OE}1 (in), 2 A1 (in), 3 A2 (in), 4 A3 (in), 5 A4 (in), 6 A5 (in), 7 A6 (in), 8 A7 (in), 9 A8 (in), 10 GND (power), 11 Y8 (hiz), 12 Y7 (hiz), 13 Y6 (hiz), 14 Y5 (hiz), 15 Y4 (hiz), 16 Y3 (hiz), 17 Y2 (hiz), 18 Y1 (hiz), 19 ~{OE}2 (in), 20 VDD (power)

## MC74VHCU04D
designator U?
Hex Unbuffered Inverter; Published: 15-Apr-2002; LatestRevisionDate: 13-Apr-2006; LatestRevisionNote: IPC-7351 Footprint Added.; DatasheetVersion: 1997; PackageReference: 751A-03; Publisher: Altium Limited; PackageDescription: 14-Pin Small Outline Integrated Circuit 1.27 mm Pitch; Code_JEDEC: MS-012-AB; Code_IPC: SOIC127P600-14; ComponentLink1Description: Manufacturer Link; ComponentLink1URL: http://www.onsemi.com/; ComponentLink2Description: Datasheet; ComponentLink2URL: http://www.onsemi.com/pub/Collateral/MC74VHCU04-D.PDF
footprint 751A-03_N (SOIC, 14-Leads, Body 8.7x3.9mm, Pitch 1.27mm, IPC Medium Density)
footprint 751A-03_L (SOIC, 14-Leads, Body 8.7x3.9mm, Pitch 1.27mm, IPC High Density)
footprint 751A-03_M (SOIC, 14-Leads, Body 8.7x3.9mm, Pitch 1.27mm, IPC Low Density)
pins on every part: 7 GND (power) hidden to GND, 14 VDD (power) hidden to VDD
part A pins: 1 IN (in), 2 ~{OUT} (out)
part B pins: 3 IN (in), 4 ~{OUT} (out)
part C pins: 5 IN (in), 6 ~{OUT} (out)
part D pins: 8 ~{OUT} (out), 9 IN (in)
part E pins: 10 ~{OUT} (out), 11 IN (in)
part F pins: 12 ~{OUT} (out), 13 IN (in)

## MC74VHCU04DT
designator U?
Hex Unbuffered Inverter; Published: 15-Apr-2002; LatestRevisionDate: 12-Dec-2006; LatestRevisionNote: IPC-7351 Footprint Added.; DatasheetVersion: 1997; PackageVersion: 1998; PackageReference: 948G-01; Publisher: Altium Limited; PackageDescription: 14-Pin Thin Small Outline Package 0.65 mm Pitch; ComponentLink1Description: Manufacturer Link; ComponentLink1URL: http://www.onsemi.com/; ComponentLink2Description: Datasheet; ComponentLink2URL: http://www.onsemi.com/pub/Collateral/MC74VHCU04-D.PDF
footprint 948G-01_N (TSOP, 14-Leads, Body 5x4.4mm, Pitch 0.65mm, IPC Medium Density)
footprint 948G-01_L (TSOP, 14-Leads, Body 5x4.4mm, Pitch 0.65mm, IPC High Density)
footprint 948G-01_M (TSOP, 14-Leads, Body 5x4.4mm, Pitch 0.65mm, IPC Low Density)
pins on every part: 7 GND (power) hidden to GND, 14 VDD (power) hidden to VDD
part A pins: 1 IN (in), 2 ~{OUT} (out)
part B pins: 3 IN (in), 4 ~{OUT} (out)
part C pins: 5 IN (in), 6 ~{OUT} (out)
part D pins: 8 ~{OUT} (out), 9 IN (in)
part E pins: 10 ~{OUT} (out), 11 IN (in)
part F pins: 12 ~{OUT} (out), 13 IN (in)

## MC74VHCU04M
designator U?
Hex Unbuffered Inverter; Published: 15-Apr-2002; LatestRevisionDate: 13-Apr-2006; LatestRevisionNote: IPC-7351 Footprint Added.; DatasheetVersion: 1997; PackageVersion: 1996; PackageReference: 965-01; Publisher: Altium Limited; PackageDescription: 14-Pin Small Outline Package 1.27 mm Pitch; ComponentLink1Description: Manufacturer Link; ComponentLink1URL: http://www.onsemi.com/; ComponentLink2Description: Datasheet; ComponentLink2URL: http://www.onsemi.com/pub/Collateral/MC74VHCU04-D.PDF
footprint 965-01_N (SOP, 14-Leads, Body 10.2x5.3mm, Pitch 1.27mm, IPC Medium Density)
footprint 965-01_L (SOP, 14-Leads, Body 10.2x5.3mm, Pitch 1.27mm, IPC High Density)
footprint 965-01_M (SOP, 14-Leads, Body 10.2x5.3mm, Pitch 1.27mm, IPC Low Density)
pins on every part: 7 GND (power) hidden to GND, 14 VDD (power) hidden to VDD
part A pins: 1 IN (in), 2 ~{OUT} (out)
part B pins: 3 IN (in), 4 ~{OUT} (out)
part C pins: 5 IN (in), 6 ~{OUT} (out)
part D pins: 8 ~{OUT} (out), 9 IN (in)
part E pins: 10 ~{OUT} (out), 11 IN (in)
part F pins: 12 ~{OUT} (out), 13 IN (in)

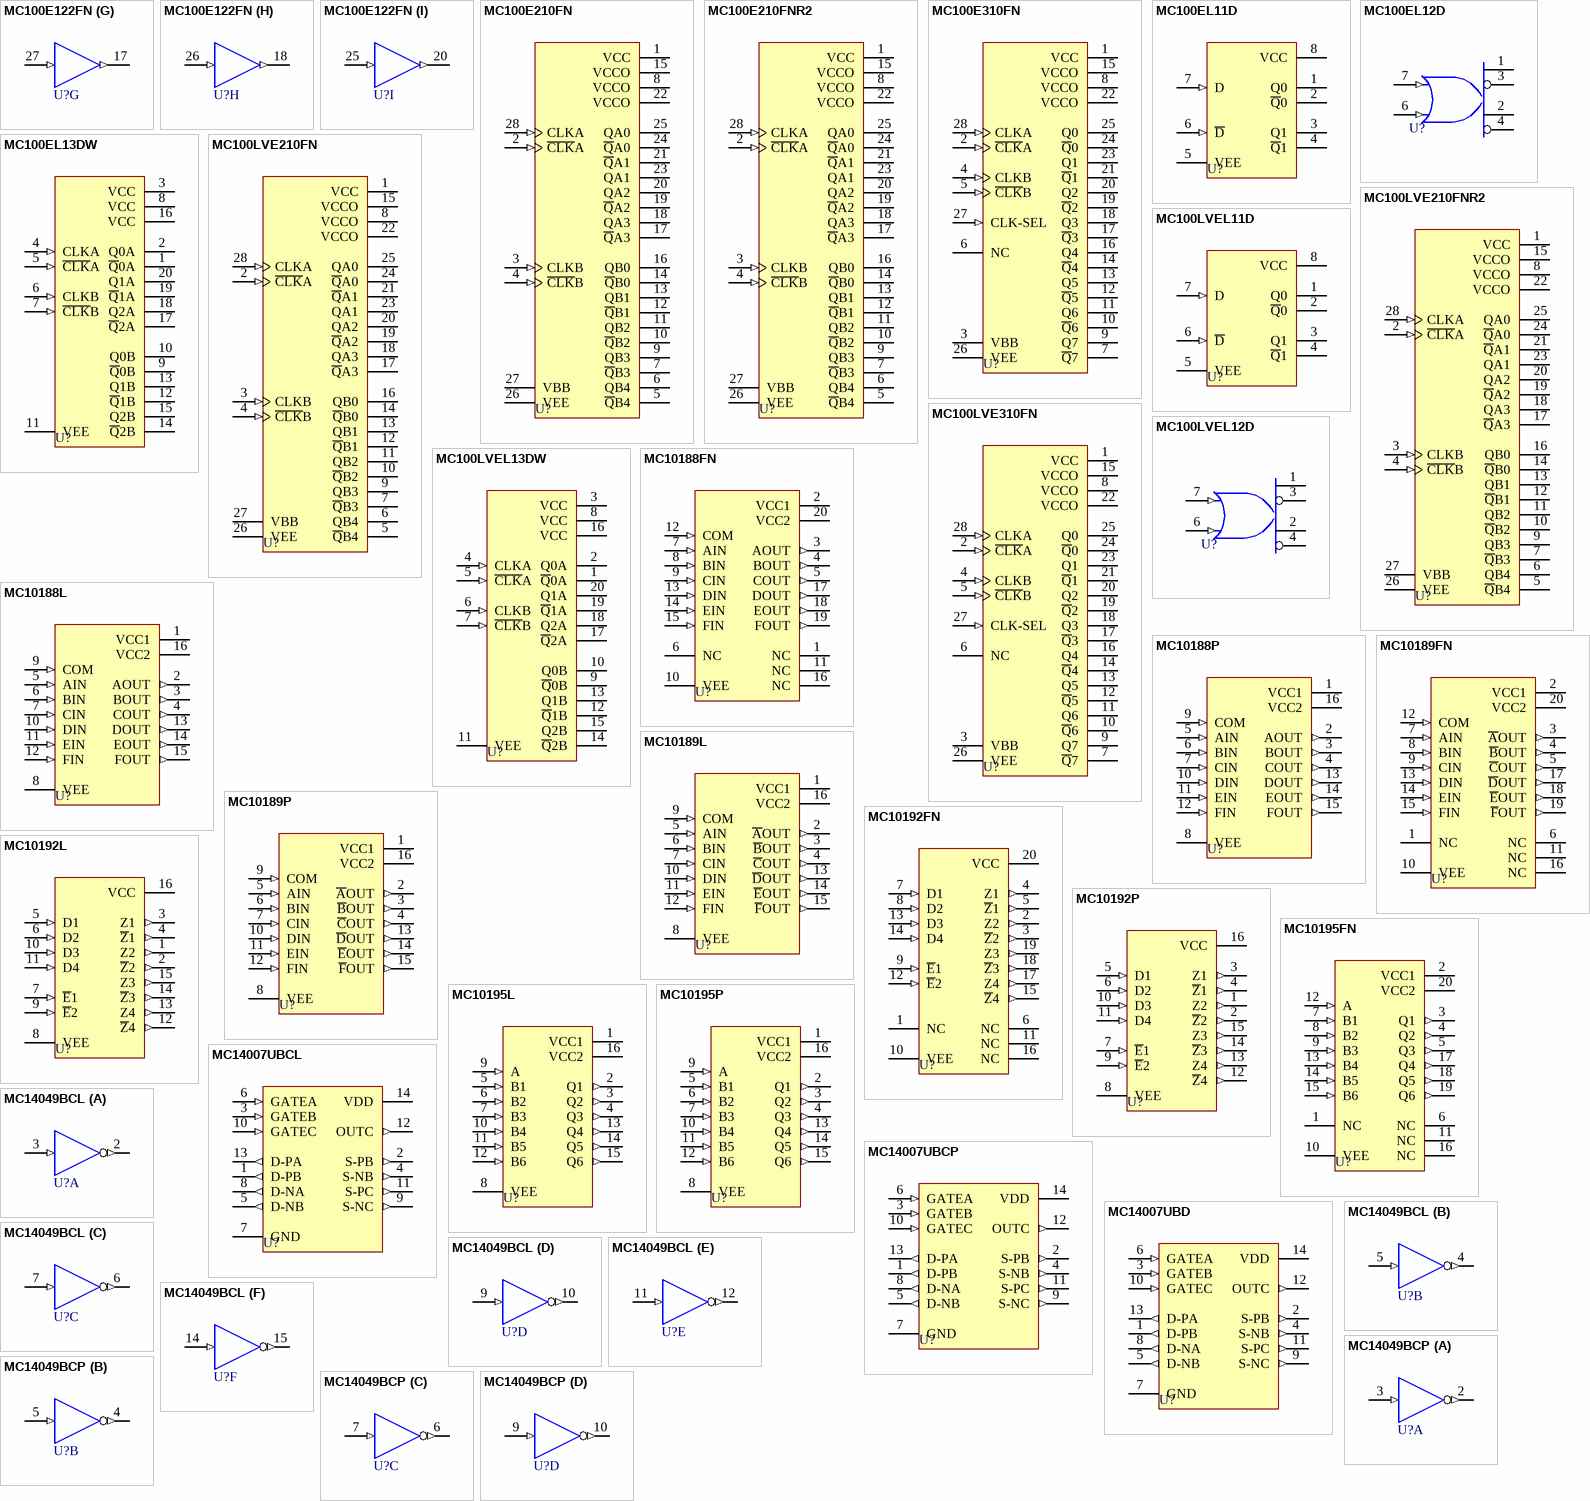
[diagram p17: symbols MC100E122FN to MC14049BCP]

## MC100E122FN
designator U?
9-Bit Buffer; Note: NC Pins are 21, 23, 24; Published: 15-Apr-2002; LatestRevisionDate: 13-Apr-2006; LatestRevisionNote: IPC-7351 Footprint Added.; DatasheetVersion: 1996; PackageVersion: Feb-2000; PackageReference: 776-02; Publisher: Altium Limited; PackageDescription: 28-Pin Leaded Chip Carrier 1.27 mm Pitch; ComponentLink1Description: Manufacturer Link; ComponentLink1URL: http://www.onsemi.com/; ComponentLink2Description: Datasheet; ComponentLink2URL: http://www.onsemi.com/pub/Collateral/MC10E122-D.PDF
footprint 776-02_N (Leaded Chip Carrier, 28-Leads, Body 11.5x11.5mm, Pitch 1.27mm, IPC Medium Density)
footprint 776-02_L (Leaded Chip Carrier, 28-Leads, Body 11.5x11.5mm, Pitch 1.27mm, IPC High Density)
footprint 776-02_M (Leaded Chip Carrier, 28-Leads, Body 11.5x11.5mm, Pitch 1.27mm, IPC Low Density)
pins on every part: 1 VEE (power) hidden to VEE, 7 VCCO (power) hidden to VCCO, 10 VCCO (power) hidden to VCCO, 13 VCCO (power) hidden to VCCO, 16 VCC (power) hidden to VCC, 19 VCCO (power) hidden to VCCO, 22 VCCO (power) hidden to VCCO
part A pins: 6 D0 (in), 8 Q0 (out)
part B pins: 5 D1 (in), 9 Q1 (out)
part C pins: 4 D2 (in), 11 Q2 (out)
part D pins: 3 D3 (in), 12 Q3 (out)
part E pins: 2 D4 (in), 14 Q4 (out)
part F pins: 15 Q5 (out), 28 D5 (in)
part G pins: 17 Q6 (out), 27 D6 (in)
part H pins: 18 Q7 (out), 26 D7 (in)
part I pins: 20 Q8 (out), 25 D8 (in)

## MC100E210FN
designator U?
Low-Voltage Dual 1:4, 1:5 Differential Fanout Buffer; Published: 15-Apr-2002; LatestRevisionDate: 13-Apr-2006; LatestRevisionNote: IPC-7351 Footprint Added.; DatasheetVersion: Feb-2000; PackageVersion: Feb-2000; PackageReference: 776-02; Publisher: Altium Limited; PackageDescription: 28-Pin Leaded Chip Carrier 1.27 mm Pitch; ComponentLink1Description: Manufacturer Link; ComponentLink1URL: http://www.onsemi.com/; ComponentLink2Description: Datasheet; ComponentLink2URL: http://www.onsemi.com/pub/Collateral/MC100E210-D.PDF
footprint 776-02_N (Leaded Chip Carrier, 28-Leads, Body 11.5x11.5mm, Pitch 1.27mm, IPC Medium Density)
footprint 776-02_L (Leaded Chip Carrier, 28-Leads, Body 11.5x11.5mm, Pitch 1.27mm, IPC High Density)
footprint 776-02_M (Leaded Chip Carrier, 28-Leads, Body 11.5x11.5mm, Pitch 1.27mm, IPC Low Density)
pins: 1 VCC (power), 2 ~{CLK}A (in), 3 CLKB (in), 4 ~{CLK}B (in), 5 ~{Q}B4 (oe), 6 QB4 (oe), 7 ~{Q}B3 (oe), 8 VCCO (power), 9 QB3 (oe), 10 ~{Q}B2 (oe), 11 QB2 (oe), 12 ~{Q}B1 (oe), 13 QB1 (oe), 14 ~{Q}B0 (oe), 15 VCCO (power), 16 QB0 (oe), 17 ~{Q}A3 (oe), 18 QA3 (oe), 19 ~{Q}A2 (oe), 20 QA2 (oe), 21 ~{Q}A1 (oe), 22 VCCO (power), 23 QA1 (oe), 24 ~{Q}A0 (oe), 25 QA0 (oe), 26 VEE (power), 27 VBB (power), 28 CLKA (in)

## MC100E210FNR2
designator U?
Low-Voltage Dual 1:4, 1:5 Differential Fanout Buffer; Published: 15-Apr-2002; LatestRevisionDate: 13-Apr-2006; LatestRevisionNote: IPC-7351 Footprint Added.; DatasheetVersion: Feb-2000; PackageVersion: Feb-2000; PackageReference: 776-02; Publisher: Altium Limited; PackageDescription: 28-Pin Leaded Chip Carrier 1.27 mm Pitch; ComponentLink1Description: Manufacturer Link; ComponentLink1URL: http://www.onsemi.com/; ComponentLink2Description: Datasheet; ComponentLink2URL: http://www.onsemi.com/pub/Collateral/MC100E210-D.PDF
footprint 776-02_N (Leaded Chip Carrier, 28-Leads, Body 11.5x11.5mm, Pitch 1.27mm, IPC Medium Density)
footprint 776-02_L (Leaded Chip Carrier, 28-Leads, Body 11.5x11.5mm, Pitch 1.27mm, IPC High Density)
footprint 776-02_M (Leaded Chip Carrier, 28-Leads, Body 11.5x11.5mm, Pitch 1.27mm, IPC Low Density)
pins: 1 VCC (power), 2 ~{CLK}A (in), 3 CLKB (in), 4 ~{CLK}B (in), 5 ~{Q}B4 (oe), 6 QB4 (oe), 7 ~{Q}B3 (oe), 8 VCCO (power), 9 QB3 (oe), 10 ~{Q}B2 (oe), 11 QB2 (oe), 12 ~{Q}B1 (oe), 13 QB1 (oe), 14 ~{Q}B0 (oe), 15 VCCO (power), 16 QB0 (oe), 17 ~{Q}A3 (oe), 18 QA3 (oe), 19 ~{Q}A2 (oe), 20 QA2 (oe), 21 ~{Q}A1 (oe), 22 VCCO (power), 23 QA1 (oe), 24 ~{Q}A0 (oe), 25 QA0 (oe), 26 VEE (power), 27 VBB (power), 28 CLKA (in)

## MC100E310FN
designator U?
Low-Voltage 2:8 Differential Fanout Buffer; Published: 15-Apr-2002; LatestRevisionDate: 13-Apr-2006; LatestRevisionNote: IPC-7351 Footprint Added.; DatasheetVersion: 1996; PackageVersion: Feb-2000; PackageReference: 776-02; Publisher: Altium Limited; PackageDescription: 28-Pin Leaded Chip Carrier 1.27 mm Pitch; ComponentLink1Description: Manufacturer Link; ComponentLink1URL: http://www.onsemi.com/; ComponentLink2Description: Datasheet; ComponentLink2URL: http://www.onsemi.com/pub/Collateral/MC100E310-D.PDF
footprint 776-02_N (Leaded Chip Carrier, 28-Leads, Body 11.5x11.5mm, Pitch 1.27mm, IPC Medium Density)
footprint 776-02_L (Leaded Chip Carrier, 28-Leads, Body 11.5x11.5mm, Pitch 1.27mm, IPC High Density)
footprint 776-02_M (Leaded Chip Carrier, 28-Leads, Body 11.5x11.5mm, Pitch 1.27mm, IPC Low Density)
pins: 1 VCC (power), 2 ~{CLK}A (in), 3 VBB (power), 4 CLKB (in), 5 ~{CLK}B (in), 6 NC, 7 ~{Q}7 (oe), 8 VCCO (power), 9 Q7 (oe), 10 ~{Q}6 (oe), 11 Q6 (oe), 12 ~{Q}5 (oe), 13 Q5 (oe), 14 ~{Q}4 (oe), 15 VCCO (power), 16 Q4 (oe), 17 ~{Q}3 (oe), 18 Q3 (oe), 19 ~{Q}2 (oe), 20 Q2 (oe), 21 ~{Q}1 (oe), 22 VCCO (power), 23 Q1 (oe), 24 ~{Q}0 (oe), 25 Q0 (oe), 26 VEE (power), 27 CLK-SEL (in), 28 CLKA (in)

## MC100EL11D
designator U?
1:2 Differential Fanout Buffer; Published: 15-Apr-2002; LatestRevisionDate: 13-Apr-2006; LatestRevisionNote: IPC-7351 Footprint Added.; DatasheetVersion: 1996; PackageVersion: 1998; PackageReference: 751-05; Publisher: Altium Limited; PackageDescription: 8-Pin Small Outline Integrated Circuit 1.27 mm Pitch; Code_JEDEC: MS-012-AA; Code_IPC: SOIC127P600-8; ComponentLink1Description: Manufacturer Link; ComponentLink1URL: http://www.onsemi.com/; ComponentLink2Description: Datasheet; ComponentLink2URL: http://www.onsemi.com/pub/Collateral/MC10EL11-D.PDF
footprint 751-05_N (SOIC, 8-Leads, Body 4.9x3.9mm, Pitch 1.27mm, IPC Medium Density)
footprint 751-05_L (SOIC, 8-Leads, Body 4.9x3.9mm, Pitch 1.27mm, IPC High Density)
footprint 751-05_M (SOIC, 8-Leads, Body 4.9x3.9mm, Pitch 1.27mm, IPC Low Density)
pins: 1 Q0 (oe), 2 ~{Q}0 (oe), 3 Q1 (oe), 4 ~{Q}1 (oe), 5 VEE (power), 6 ~{D} (in), 7 D (in), 8 VCC (power)

## MC100EL12D
designator U?
Low Impedance Driver; Published: 15-Apr-2002; LatestRevisionDate: 13-Apr-2006; LatestRevisionNote: IPC-7351 Footprint Added.; DatasheetVersion: 1996; PackageVersion: 1998; PackageReference: 751-05; Publisher: Altium Limited; PackageDescription: 8-Pin Small Outline Integrated Circuit 1.27 mm Pitch; Code_JEDEC: MS-012-AA; Code_IPC: SOIC127P600-8; ComponentLink1Description: Manufacturer Link; ComponentLink1URL: http://www.onsemi.com/; ComponentLink2Description: Datasheet; ComponentLink2URL: http://www.onsemi.com/pub/Collateral/MC10EL12-D.PDF
footprint 751-05_N (SOIC, 8-Leads, Body 4.9x3.9mm, Pitch 1.27mm, IPC Medium Density)
footprint 751-05_L (SOIC, 8-Leads, Body 4.9x3.9mm, Pitch 1.27mm, IPC High Density)
footprint 751-05_M (SOIC, 8-Leads, Body 4.9x3.9mm, Pitch 1.27mm, IPC Low Density)
pins: 1 QA (oe), 2 QB (oe), 3 ~{Q}A (oe), 4 ~{Q}B (oe), 5 VEE (power) hidden to VEE, 6 D1 (in), 7 D0 (in), 8 VCC (power) hidden to VCC

## MC100EL13DW
designator U?
Dual 1:3 Fanout Buffer; Published: 15-Apr-2002; LatestRevisionDate: 13-Apr-2006; LatestRevisionNote: IPC-7351 Footprint Added.; DatasheetVersion: 1996; PackageReference: 751D-04; Publisher: Altium Limited; PackageDescription: 20-Pin Small Outline Integrated Circuit 1.27 mm Pitch; ComponentLink1Description: Manufacturer Link; ComponentLink1URL: http://www.onsemi.com/; ComponentLink2Description: Datasheet; ComponentLink2URL: http://www.onsemi.com/pub/Collateral/MC100EL13-D.PDF
footprint 751D-04_N (SOIC, 20-Leads, Body 12.8x7.5mm, Pitch 1.27mm, IPC Medium Density)
footprint 751D-04_L (SOIC, 20-Leads, Body 12.8x7.5mm, Pitch 1.27mm, IPC High Density)
footprint 751D-04_M (SOIC, 20-Leads, Body 12.8x7.5mm, Pitch 1.27mm, IPC Low Density)
pins: 1 ~{Q}0A (oe), 2 Q0A (oe), 3 VCC (power), 4 CLKA (in), 5 ~{CLK}A (in), 6 CLKB (in), 7 ~{CLK}B (in), 8 VCC (power), 9 ~{Q}0B (oe), 10 Q0B (oe), 11 VEE (power), 12 ~{Q}1B (oe), 13 Q1B (oe), 14 ~{Q}2B (oe), 15 Q2B (oe), 16 VCC (power), 17 ~{Q}2A (oe), 18 Q2A (oe), 19 ~{Q}1A (oe), 20 Q1A (oe)

## MC100LVE210FN
designator U?
Low-Voltage Dual 1:4, 1:5 Differential Fanout Buffer; Published: 15-Apr-2002; LatestRevisionDate: 13-Apr-2006; LatestRevisionNote: IPC-7351 Footprint Added.; DatasheetVersion: Feb-2000; PackageVersion: Feb-2000; PackageReference: 776-02; Publisher: Altium Limited; PackageDescription: 28-Pin Leaded Chip Carrier 1.27 mm Pitch; ComponentLink1Description: Manufacturer Link; ComponentLink1URL: http://www.onsemi.com/; ComponentLink2Description: Datasheet; ComponentLink2URL: http://www.onsemi.com/pub/Collateral/MC100E210-D.PDF
footprint 776-02_N (Leaded Chip Carrier, 28-Leads, Body 11.5x11.5mm, Pitch 1.27mm, IPC Medium Density)
footprint 776-02_L (Leaded Chip Carrier, 28-Leads, Body 11.5x11.5mm, Pitch 1.27mm, IPC High Density)
footprint 776-02_M (Leaded Chip Carrier, 28-Leads, Body 11.5x11.5mm, Pitch 1.27mm, IPC Low Density)
pins: 1 VCC (power), 2 ~{CLK}A (in), 3 CLKB (in), 4 ~{CLK}B (in), 5 ~{Q}B4 (oe), 6 QB4 (oe), 7 ~{Q}B3 (oe), 8 VCCO (power), 9 QB3 (oe), 10 ~{Q}B2 (oe), 11 QB2 (oe), 12 ~{Q}B1 (oe), 13 QB1 (oe), 14 ~{Q}B0 (oe), 15 VCCO (power), 16 QB0 (oe), 17 ~{Q}A3 (oe), 18 QA3 (oe), 19 ~{Q}A2 (oe), 20 QA2 (oe), 21 ~{Q}A1 (oe), 22 VCCO (power), 23 QA1 (oe), 24 ~{Q}A0 (oe), 25 QA0 (oe), 26 VEE (power), 27 VBB (power), 28 CLKA (in)

## MC100LVE210FNR2
designator U?
Low-Voltage Dual 1:4, 1:5 Differential Fanout Buffer; Published: 15-Apr-2002; LatestRevisionDate: 13-Apr-2006; LatestRevisionNote: IPC-7351 Footprint Added.; DatasheetVersion: Feb-2000; PackageVersion: Feb-2000; PackageReference: 776-02; Publisher: Altium Limited; PackageDescription: 28-Pin Leaded Chip Carrier 1.27 mm Pitch; ComponentLink1Description: Manufacturer Link; ComponentLink1URL: http://www.onsemi.com/; ComponentLink2Description: Datasheet; ComponentLink2URL: http://www.onsemi.com/pub/Collateral/MC100E210-D.PDF
footprint 776-02_N (Leaded Chip Carrier, 28-Leads, Body 11.5x11.5mm, Pitch 1.27mm, IPC Medium Density)
footprint 776-02_L (Leaded Chip Carrier, 28-Leads, Body 11.5x11.5mm, Pitch 1.27mm, IPC High Density)
footprint 776-02_M (Leaded Chip Carrier, 28-Leads, Body 11.5x11.5mm, Pitch 1.27mm, IPC Low Density)
pins: 1 VCC (power), 2 ~{CLK}A (in), 3 CLKB (in), 4 ~{CLK}B (in), 5 ~{Q}B4 (oe), 6 QB4 (oe), 7 ~{Q}B3 (oe), 8 VCCO (power), 9 QB3 (oe), 10 ~{Q}B2 (oe), 11 QB2 (oe), 12 ~{Q}B1 (oe), 13 QB1 (oe), 14 ~{Q}B0 (oe), 15 VCCO (power), 16 QB0 (oe), 17 ~{Q}A3 (oe), 18 QA3 (oe), 19 ~{Q}A2 (oe), 20 QA2 (oe), 21 ~{Q}A1 (oe), 22 VCCO (power), 23 QA1 (oe), 24 ~{Q}A0 (oe), 25 QA0 (oe), 26 VEE (power), 27 VBB (power), 28 CLKA (in)

## MC100LVE310FN
designator U?
Low-Voltage 2:8 Differential Fanout Buffer; Published: 15-Apr-2002; LatestRevisionDate: 13-Apr-2006; LatestRevisionNote: IPC-7351 Footprint Added.; DatasheetVersion: 1996; PackageVersion: Feb-2000; PackageReference: 776-02; Publisher: Altium Limited; PackageDescription: 28-Pin Leaded Chip Carrier 1.27 mm Pitch; ComponentLink1Description: Manufacturer Link; ComponentLink1URL: http://www.onsemi.com/; ComponentLink2Description: Datasheet; ComponentLink2URL: http://www.onsemi.com/pub/Collateral/MC100E310-D.PDF
footprint 776-02_N (Leaded Chip Carrier, 28-Leads, Body 11.5x11.5mm, Pitch 1.27mm, IPC Medium Density)
footprint 776-02_L (Leaded Chip Carrier, 28-Leads, Body 11.5x11.5mm, Pitch 1.27mm, IPC High Density)
footprint 776-02_M (Leaded Chip Carrier, 28-Leads, Body 11.5x11.5mm, Pitch 1.27mm, IPC Low Density)
pins: 1 VCC (power), 2 ~{CLK}A (in), 3 VBB (power), 4 CLKB (in), 5 ~{CLK}B (in), 6 NC, 7 ~{Q}7 (oe), 8 VCCO (power), 9 Q7 (oe), 10 ~{Q}6 (oe), 11 Q6 (oe), 12 ~{Q}5 (oe), 13 Q5 (oe), 14 ~{Q}4 (oe), 15 VCCO (power), 16 Q4 (oe), 17 ~{Q}3 (oe), 18 Q3 (oe), 19 ~{Q}2 (oe), 20 Q2 (oe), 21 ~{Q}1 (oe), 22 VCCO (power), 23 Q1 (oe), 24 ~{Q}0 (oe), 25 Q0 (oe), 26 VEE (power), 27 CLK-SEL (in), 28 CLKA (in)

## MC100LVEL11D
designator U?
Low Voltage 1:2 Differential Fanout Buffer; Published: 15-Apr-2002; LatestRevisionDate: 13-Apr-2006; LatestRevisionNote: IPC-7351 Footprint Added.; DatasheetVersion: 1996; PackageVersion: 1998; PackageReference: 751-05; Publisher: Altium Limited; PackageDescription: 8-Pin Small Outline Integrated Circuit 1.27 mm Pitch; Code_JEDEC: MS-012-AA; Code_IPC: SOIC127P600-8; ComponentLink1Description: Manufacturer Link; ComponentLink1URL: http://www.onsemi.com/; ComponentLink2Description: Datasheet; ComponentLink2URL: http://www.onsemi.com/pub/Collateral/MC100LVEL11-D.PDF
footprint 751-05_N (SOIC, 8-Leads, Body 4.9x3.9mm, Pitch 1.27mm, IPC Medium Density)
footprint 751-05_L (SOIC, 8-Leads, Body 4.9x3.9mm, Pitch 1.27mm, IPC High Density)
footprint 751-05_M (SOIC, 8-Leads, Body 4.9x3.9mm, Pitch 1.27mm, IPC Low Density)
pins: 1 Q0 (oe), 2 ~{Q}0 (oe), 3 Q1 (oe), 4 ~{Q}1 (oe), 5 VEE (power), 6 ~{D} (in), 7 D (in), 8 VCC (power)

## MC100LVEL12D
designator U?
Low Impedance Driver; Published: 15-Apr-2002; LatestRevisionDate: 13-Apr-2006; LatestRevisionNote: IPC-7351 Footprint Added.; DatasheetVersion: 1997; PackageVersion: 1998; PackageReference: 751-05; Publisher: Altium Limited; PackageDescription: 8-Pin Small Outline Integrated Circuit 1.27 mm Pitch; Code_JEDEC: MS-012-AA; Code_IPC: SOIC127P600-8; ComponentLink1Description: Manufacturer Link; ComponentLink1URL: http://www.onsemi.com/; ComponentLink2Description: Datasheet; ComponentLink2URL: http://www.onsemi.com/pub/Collateral/MC100LVEL12-D.PDF
footprint 751-05_N (SOIC, 8-Leads, Body 4.9x3.9mm, Pitch 1.27mm, IPC Medium Density)
footprint 751-05_L (SOIC, 8-Leads, Body 4.9x3.9mm, Pitch 1.27mm, IPC High Density)
footprint 751-05_M (SOIC, 8-Leads, Body 4.9x3.9mm, Pitch 1.27mm, IPC Low Density)
pins: 1 QA (oe), 2 QB (oe), 3 ~{Q}A (oe), 4 ~{Q}B (oe), 5 VEE (power) hidden to VEE, 6 D1 (in), 7 D0 (in), 8 VCC (power) hidden to VCC

## MC100LVEL13DW
designator U?
Dual 1:3 Fanout Buffer; Published: 15-Apr-2002; LatestRevisionDate: 13-Apr-2006; LatestRevisionNote: IPC-7351 Footprint Added.; DatasheetVersion: 1996; PackageReference: 751D-04; Publisher: Altium Limited; PackageDescription: 20-Pin Small Outline Integrated Circuit 1.27 mm Pitch; ComponentLink1Description: Manufacturer Link; ComponentLink1URL: http://www.onsemi.com/; ComponentLink2Description: Datasheet; ComponentLink2URL: http://www.onsemi.com/pub/Collateral/MC100EL13-D.PDF
footprint 751D-04_N (SOIC, 20-Leads, Body 12.8x7.5mm, Pitch 1.27mm, IPC Medium Density)
footprint 751D-04_L (SOIC, 20-Leads, Body 12.8x7.5mm, Pitch 1.27mm, IPC High Density)
footprint 751D-04_M (SOIC, 20-Leads, Body 12.8x7.5mm, Pitch 1.27mm, IPC Low Density)
pins: 1 ~{Q}0A (oe), 2 Q0A (oe), 3 VCC (power), 4 CLKA (in), 5 ~{CLK}A (in), 6 CLKB (in), 7 ~{CLK}B (in), 8 VCC (power), 9 ~{Q}0B (oe), 10 Q0B (oe), 11 VEE (power), 12 ~{Q}1B (oe), 13 Q1B (oe), 14 ~{Q}2B (oe), 15 Q2B (oe), 16 VCC (power), 17 ~{Q}2A (oe), 18 Q2A (oe), 19 ~{Q}1A (oe), 20 Q1A (oe)

## MC10188FN
designator U?
Hex Buffer with Enable; Published: 15-Apr-2002; LatestRevisionDate: 13-Apr-2006; LatestRevisionNote: IPC-7351 Footprint Added.; DatasheetVersion: 1996; PackageVersion: 1996; PackageReference: 775-02; Publisher: Altium Limited; PackageDescription: 20-Pin Leaded Chip Carrier 1.27 mm Pitch; ComponentLink1Description: Manufacturer Link; ComponentLink1URL: http://www.onsemi.com/; ComponentLink2Description: Datasheet; ComponentLink2URL: http://www.onsemi.com/pub/Collateral/MC10188-D.PDF
footprint 775-02_N (Leaded Chip Carrier, 20-Leads, Body 9x9mm, Pitch 1.27mm, IPC Medium Density)
footprint 775-02_L (Leaded Chip Carrier, 20-Leads, Body 9x9mm, Pitch 1.27mm, IPC High Density)
footprint 775-02_M (Leaded Chip Carrier, 20-Leads, Body 9x9mm, Pitch 1.27mm, IPC Low Density)
pins: 1 NC, 2 VCC1 (power), 3 AOUT (out), 4 BOUT (out), 5 COUT (out), 6 NC, 7 AIN (in), 8 BIN (in), 9 CIN (in), 10 VEE (power), 11 NC, 12 COM (in), 13 DIN (in), 14 EIN (in), 15 FIN (in), 16 NC, 17 DOUT (out), 18 EOUT (out), 19 FOUT (out), 20 VCC2 (power)